# Altium integrated library TI_Logic_Specialty_Logic.IntLib: 2504 symbols (part 37 of 81)
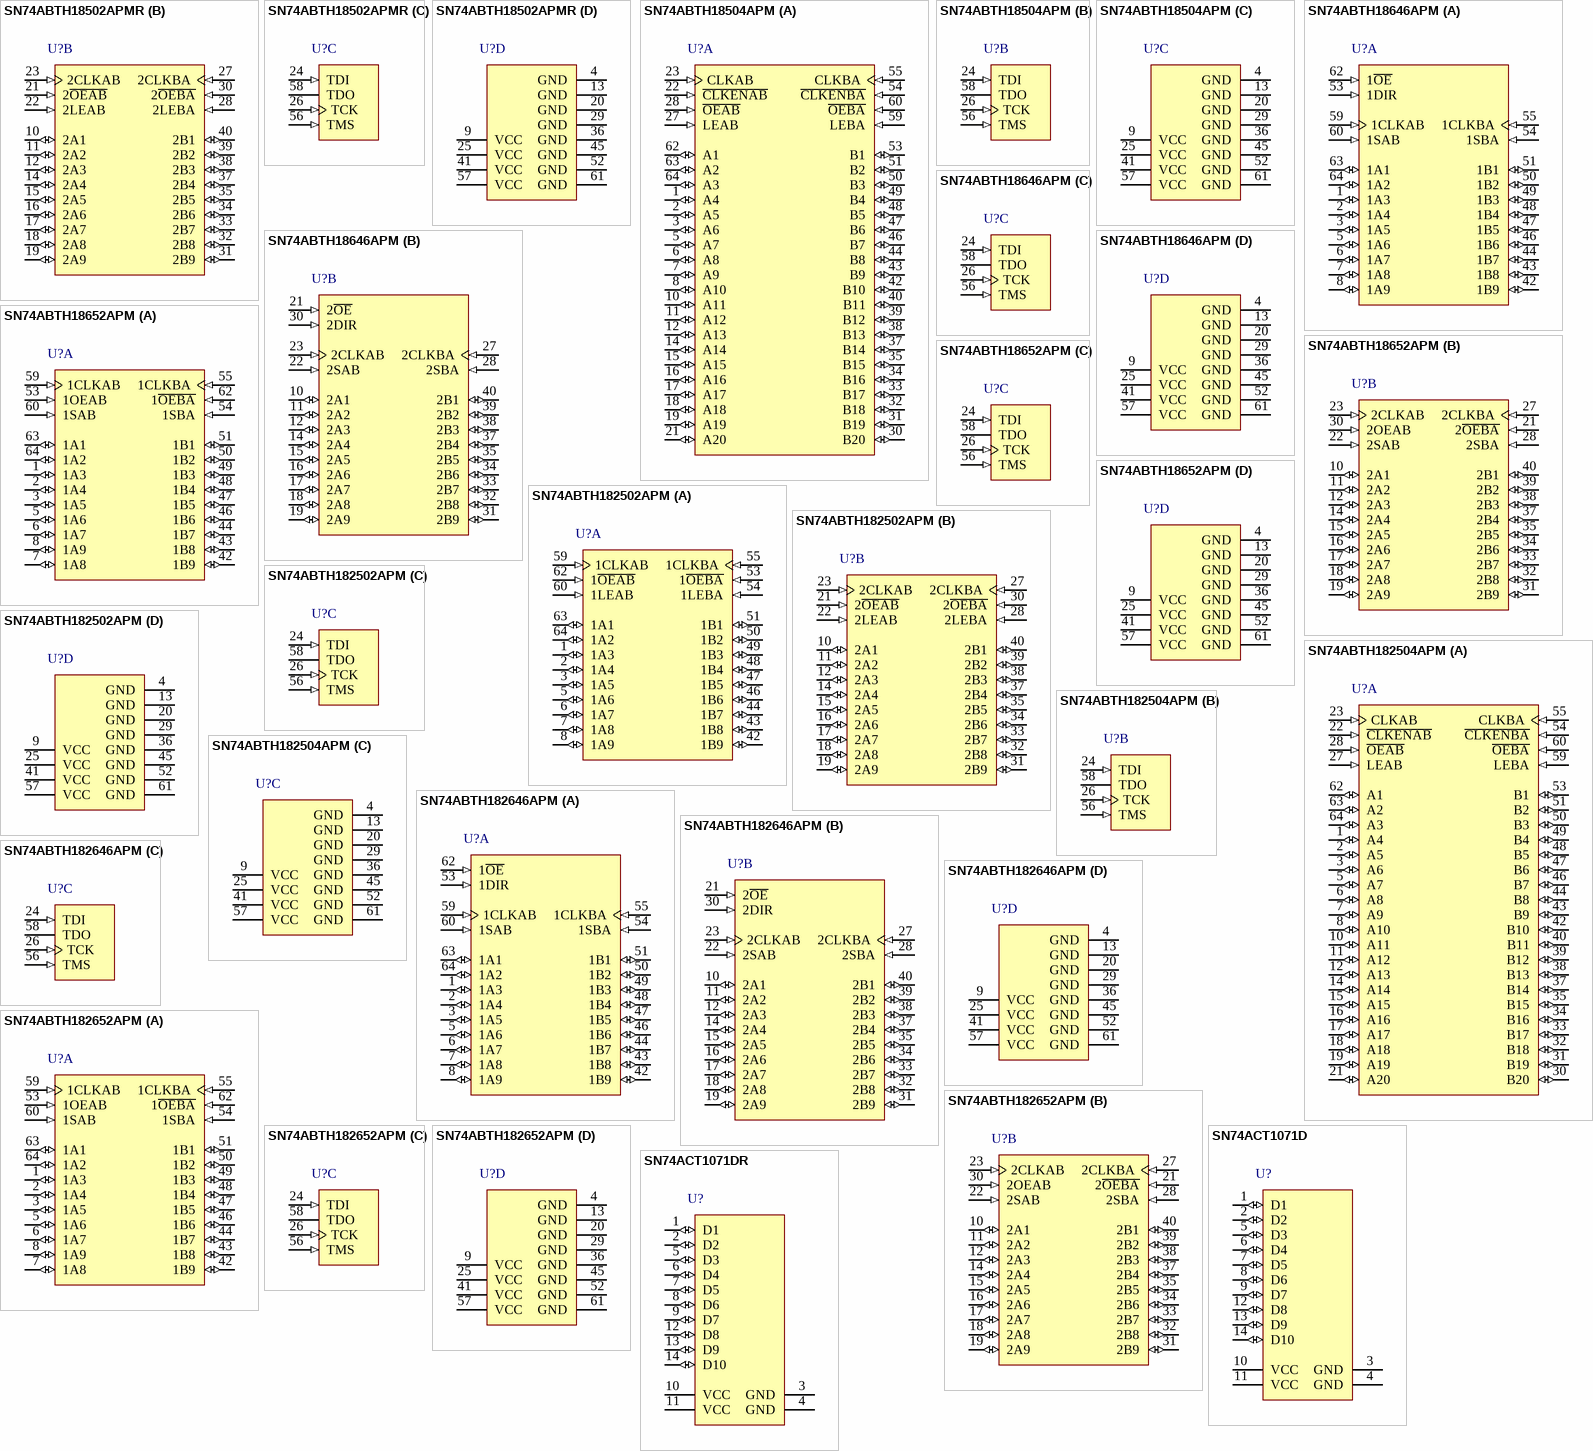
[diagram p140: symbols SN74ABTH18502APMR to SN74ACT1071DR]

## SN74ABTH182646APM
designator U?
Scan Test Devices With 18-Bit Transceivers And Registers, PM0064A, JEDEC TRAY (10+1); Generic Part Number: SN74ABTH182646A; Manufacturer: Texas Instruments; PartNumber: SN74ABTH182646APM; VCC(Min)(V): 4.5; VCC(Max)(V): 5.5; Output Type: TTL; ICC @ Nom Voltage(Max)(mA): 27; Bits(#): 18; F @ Nom Voltage(Max)(Mhz): 150; Rating: Catalog; Technology Family: ABT; Voltage(Nom)(V): 5; Output Drive (IOL/IOH)(Max)(mA): 64/-32; Output Logic: True; tpd @ Nom Voltage(Max)(ns): 6.1; DatasheetVersion: SCBS166D; PackageReference: PM0064A; Supplier 1: Mouser; Supplier Part Number 1: 595-SN74ABTH182646AP; Supplier 2: Digi-Key; Supplier Part Number 2: 296-4133-ND; Input Type: TTL; Operating Temperature Range(C): -40 to 85; ComponentLink1Description: Manufacturer URL; ComponentLink1URL: http://www.ti.com/; ComponentLink2Description: Datasheet; ComponentLink2URL: http://www.ti.com/lit/ds/symlink/sn74abth182646a.pdf
footprint PM0064A_N (QFP, 64-Leads, Body 10x10mm, Pitch 0.5mm, IPC Medium Density)
footprint PM0064A_M (QFP, 64-Leads, Body 10x10mm, Pitch 0.5mm, IPC Low Density)
footprint PM0064A_L (QFP, 64-Leads, Body 10x10mm, Pitch 0.5mm, IPC High Density)
part A pins: 1 1A3 (io) "Normal-function A-bus I/O ports. See function table for normal-mode logic.", 2 1A4 (io) "Normal-function A-bus I/O ports. See function table for normal-mode logic.", 3 1A5 (io) "Normal-function A-bus I/O ports. See function table for normal-mode logic.", 5 1A6 (io) "Normal-function A-bus I/O ports. See function table for normal-mode logic.", 6 1A7 (io) "Normal-function A-bus I/O ports. See function table for normal-mode logic.", 7 1A8 (io) "Normal-function A-bus I/O ports. See function table for normal-mode logic.", 8 1A9 (io) "Normal-function A-bus I/O ports. See function table for normal-mode logic.", 42 1B9 (io) "Normal-function B-bus I/O ports. See function table for normal-mode logic.", 43 1B8 (io) "Normal-function B-bus I/O ports. See function table for normal-mode logic.", 44 1B7 (io) "Normal-function B-bus I/O ports. See function table for normal-mode logic.", 46 1B6 (io) "Normal-function B-bus I/O ports. See function table for normal-mode logic.", 47 1B5 (io) "Normal-function B-bus I/O ports. See function table for normal-mode logic.", 48 1B4 (io) "Normal-function B-bus I/O ports. See function table for normal-mode logic.", 49 1B3 (io) "Normal-function B-bus I/O ports. See function table for normal-mode logic.", 50 1B2 (io) "Normal-function B-bus I/O ports. See function table for normal-mode logic.", 51 1B1 (io) "Normal-function B-bus I/O ports. See function table for normal-mode logic.", 53 1DIR (in) "Normal-function direction controls. See function table for normal-mode logic.", 54 1SBA (in) "Normal-function select controls. See function table for normal-mode logic.", 55 1CLKBA (in) "Normal-function clock inputs. See function table for normal-mode logic.", 59 1CLKAB (in) "Normal-function clock inputs. See function table for normal-mode logic.", 60 1SAB (in) "Normal-function select controls. See function table for normal-mode logic.", 62 1~{OE} (in) "Normal-function output enables. See function table for normal-mode logic. An internal pullup at each terminal forces the terminal to a high level if left unconnected.", 63 1A1 (io) "Normal-function A-bus I/O ports. See function table for normal-mode logic.", 64 1A2 (io) "Normal-function A-bus I/O ports. See function table for normal-mode logic."
part B pins: 10 2A1 (io) "Normal-function A-bus I/O ports. See function table for normal-mode logic.", 11 2A2 (io) "Normal-function A-bus I/O ports. See function table for normal-mode logic.", 12 2A3 (io) "Normal-function A-bus I/O ports. See function table for normal-mode logic.", 14 2A4 (io) "Normal-function A-bus I/O ports. See function table for normal-mode logic.", 15 2A5 (io) "Normal-function A-bus I/O ports. See function table for normal-mode logic.", 16 2A6 (io) "Normal-function A-bus I/O ports. See function table for normal-mode logic.", 17 2A7 (io) "Normal-function A-bus I/O ports. See function table for normal-mode logic.", 18 2A8 (io) "Normal-function A-bus I/O ports. See function table for normal-mode logic.", 19 2A9 (io) "Normal-function A-bus I/O ports. See function table for normal-mode logic.", 21 2~{OE} (in) "Normal-function output enables. See function table for normal-mode logic. An internal pullup at each terminal forces the terminal to a high level if left unconnected.", 22 2SAB (in) "Normal-function select controls. See function table for normal-mode logic.", 23 2CLKAB (in) "Normal-function clock inputs. See function table for normal-mode logic.", 27 2CLKBA (in) "Normal-function clock inputs. See function table for normal-mode logic.", 28 2SBA (in) "Normal-function select controls. See function table for normal-mode logic.", 30 2DIR (in) "Normal-function direction controls. See function table for normal-mode logic.", 31 2B9 (io) "Normal-function B-bus I/O ports. See function table for normal-mode logic.", 32 2B8 (io) "Normal-function B-bus I/O ports. See function table for normal-mode logic.", 33 2B7 (io) "Normal-function B-bus I/O ports. See function table for normal-mode logic.", 34 2B6 (io) "Normal-function B-bus I/O ports. See function table for normal-mode logic.", 35 2B5 (io) "Normal-function B-bus I/O ports. See function table for normal-mode logic.", 37 2B4 (io) "Normal-function B-bus I/O ports. See function table for normal-mode logic.", 38 2B3 (io) "Normal-function B-bus I/O ports. See function table for normal-mode logic.", 39 2B2 (io) "Normal-function B-bus I/O ports. See function table for normal-mode logic.", 40 2B1 (io) "Normal-function B-bus I/O ports. See function table for normal-mode logic."
part C pins: 24 TDI (in) "Test data input. One of four terminals required by IEEE Std 1149.1-1990. TDI is the serial input for shifting data through the instruction register or selected data register. An internal pullup forces TDI to a high level if (See Datasheet)", 26 TCK (in) "Test clock. One of four terminals required by IEEE Std 1149.1-1990. Test operations of the device are synchronous to TCK. Data is captured on the rising edge of TCK and outputs change on the falling edge of TCK.", 56 TMS (in) "Test mode select. One of four terminals required by IEEE Std 1149.1-1990. TMS directs the device through its TAP controller states. An internal pullup forces TMS to a high level if left unconnected.", 58 TDO (hiz) "Test data output. One of four terminals required by IEEE Std 1149.1-1990. TDO is the serial output for shifting data through the instruction register or selected data register."
part D pins: 4 GND (power), 9 VCC (power) "Supply voltage", 13 GND (power), 20 GND (power), 25 VCC (power) "Supply voltage", 29 GND (power), 36 GND (power), 41 VCC (power) "Supply voltage", 45 GND (power), 52 GND (power), 57 VCC (power) "Supply voltage", 61 GND (power)

## SN74ABTH182652APM
designator U?
Scan Test Devices With 18-Bit Transceivers And Registers, PM0064A, JEDEC TRAY (10+1); Generic Part Number: SN74ABTH182652A; Manufacturer: Texas Instruments; PartNumber: SN74ABTH182652APM; VCC(Min)(V): 4.5; VCC(Max)(V): 5.5; Output Type: TTL; ICC @ Nom Voltage(Max)(mA): 27; Bits(#): 18; F @ Nom Voltage(Max)(Mhz): 150; Rating: Catalog; Technology Family: ABT; Voltage(Nom)(V): 5; Output Drive (IOL/IOH)(Max)(mA): 64/-32; Output Logic: True; tpd @ Nom Voltage(Max)(ns): 6.1; DatasheetVersion: SCBS167D; PackageReference: PM0064A; Supplier 1: Mouser; Supplier Part Number 1: 595-SN74ABTH182652AP; Supplier 2: Digi-Key; Supplier Part Number 2: SN74ABTH182652APM-ND; Input Type: TTL; Operating Temperature Range(C): -40 to 85; ComponentLink1Description: Manufacturer URL; ComponentLink1URL: http://www.ti.com/; ComponentLink2Description: Datasheet; ComponentLink2URL: http://www.ti.com/lit/ds/symlink/sn74abth182652a.pdf
footprint PM0064A_N (QFP, 64-Leads, Body 10x10mm, Pitch 0.5mm, IPC Medium Density)
footprint PM0064A_M (QFP, 64-Leads, Body 10x10mm, Pitch 0.5mm, IPC Low Density)
footprint PM0064A_L (QFP, 64-Leads, Body 10x10mm, Pitch 0.5mm, IPC High Density)
part A pins: 1 1A3 (io) "Normal-function A-bus I/O ports. See function table for normal-mode logic.", 2 1A4 (io) "Normal-function A-bus I/O ports. See function table for normal-mode logic.", 3 1A5 (io) "Normal-function A-bus I/O ports. See function table for normal-mode logic.", 5 1A6 (io) "Normal-function A-bus I/O ports. See function table for normal-mode logic.", 6 1A7 (io) "Normal-function A-bus I/O ports. See function table for normal-mode logic.", 7 1A8 (io) "Normal-function A-bus I/O ports. See function table for normal-mode logic.", 8 1A9 (io) "Normal-function A-bus I/O ports. See function table for normal-mode logic.", 42 1B9 (io) "Normal-function B-bus I/O ports. See function table for normal-mode logic.", 43 1B8 (io) "Normal-function B-bus I/O ports. See function table for normal-mode logic.", 44 1B7 (io) "Normal-function B-bus I/O ports. See function table for normal-mode logic.", 46 1B6 (io) "Normal-function B-bus I/O ports. See function table for normal-mode logic.", 47 1B5 (io) "Normal-function B-bus I/O ports. See function table for normal-mode logic.", 48 1B4 (io) "Normal-function B-bus I/O ports. See function table for normal-mode logic.", 49 1B3 (io) "Normal-function B-bus I/O ports. See function table for normal-mode logic.", 50 1B2 (io) "Normal-function B-bus I/O ports. See function table for normal-mode logic.", 51 1B1 (io) "Normal-function B-bus I/O ports. See function table for normal-mode logic.", 53 1OEAB (in) "Normal-function active-high output enables. See function table for normal-mode logic. An internal pulldown at each terminal forces the terminal to a high level if left unconnected.", 54 1SBA (in) "Normal-function select controls. See function table for normal-mode logic.", 55 1CLKBA (in) "Normal-function clock inputs. See function table for normal-mode logic.", 59 1CLKAB (in) "Normal-function clock inputs. See function table for normal-mode logic.", 60 1SAB (in) "Normal-function select controls. See function table for normal-mode logic.", 62 1~{OEBA} (in) "Normal-function active-low output enables. See function table for normal-mode logic. An internal pullup at each terminal forces the terminal to a high level if left unconnected.", 63 1A1 (io) "Normal-function A-bus I/O ports. See function table for normal-mode logic.", 64 1A2 (io) "Normal-function A-bus I/O ports. See function table for normal-mode logic."
part B pins: 10 2A1 (io) "Normal-function A-bus I/O ports. See function table for normal-mode logic.", 11 2A2 (io) "Normal-function A-bus I/O ports. See function table for normal-mode logic.", 12 2A3 (io) "Normal-function A-bus I/O ports. See function table for normal-mode logic.", 14 2A4 (io) "Normal-function A-bus I/O ports. See function table for normal-mode logic.", 15 2A5 (io) "Normal-function A-bus I/O ports. See function table for normal-mode logic.", 16 2A6 (io) "Normal-function A-bus I/O ports. See function table for normal-mode logic.", 17 2A7 (io) "Normal-function A-bus I/O ports. See function table for normal-mode logic.", 18 2A8 (io) "Normal-function A-bus I/O ports. See function table for normal-mode logic.", 19 2A9 (io) "Normal-function A-bus I/O ports. See function table for normal-mode logic.", 21 2~{OEBA} (in) "Normal-function active-low output enables. See function table for normal-mode logic. An internal pullup at each terminal forces the terminal to a high level if left unconnected.", 22 2SAB (in) "Normal-function select controls. See function table for normal-mode logic.", 23 2CLKAB (in) "Normal-function clock inputs. See function table for normal-mode logic.", 27 2CLKBA (in) "Normal-function clock inputs. See function table for normal-mode logic.", 28 2SBA (in) "Normal-function select controls. See function table for normal-mode logic.", 30 2OEAB (in) "Normal-function active-high output enables. See function table for normal-mode logic. An internal pulldown at each terminal forces the terminal to a high level if left unconnected.", 31 2B9 (io) "Normal-function B-bus I/O ports. See function table for normal-mode logic.", 32 2B8 (io) "Normal-function B-bus I/O ports. See function table for normal-mode logic.", 33 2B7 (io) "Normal-function B-bus I/O ports. See function table for normal-mode logic.", 34 2B6 (io) "Normal-function B-bus I/O ports. See function table for normal-mode logic.", 35 2B5 (io) "Normal-function B-bus I/O ports. See function table for normal-mode logic.", 37 2B4 (io) "Normal-function B-bus I/O ports. See function table for normal-mode logic.", 38 2B3 (io) "Normal-function B-bus I/O ports. See function table for normal-mode logic.", 39 2B2 (io) "Normal-function B-bus I/O ports. See function table for normal-mode logic.", 40 2B1 (io) "Normal-function B-bus I/O ports. See function table for normal-mode logic."
part C pins: 24 TDI (in) "Test data input. One of four terminals required by IEEE Standard 1149.1-1990. TDI is the serial input for shifting data through the instruction register or selected data register. An internal pullup forces TDI to a high (See Datasheet)", 26 TCK (in) "Test clock. One of four terminals required by IEEE Standard 1149.1-1990. Test operations of the device are synchronous to TCK. Data is captured on the rising edge of TCK and outputs change on the falling edge of TCK.", 56 TMS (in) "Test mode select. One of four terminals required by IEEE Standard 1149.1-1990. TMS directs the device through its TAP controller states. An internal pullup forces TMS to a high level if left unconnected.", 58 TDO (hiz) "Test data output. One of four terminals required by IEEE Standard 1149.1-1990. TDO is the serial output for shifting data through the instruction register or selected data register."
part D pins: 4 GND (power) "Ground", 9 VCC (power) "Supply voltage", 13 GND (power) "Ground", 20 GND (power) "Ground", 25 VCC (power) "Supply voltage", 29 GND (power) "Ground", 36 GND (power) "Ground", 41 VCC (power) "Supply voltage", 45 GND (power) "Ground", 52 GND (power) "Ground", 57 VCC (power) "Supply voltage", 61 GND (power) "Ground"

## SN74ACT1071D
designator U?
10-Bit Bus Termination Networks With Bus Hold Function, D0014A, TUBE; Generic Part Number: SN74ACT1071; Manufacturer: Texas Instruments; PartNumber: SN74ACT1071D; VCC(Min)(V): 4.5; VCC(Max)(V): 5.5; Output Type: CMOS; ICC @ Nom Voltage(Max)(mA): 0.04; Input Type: TTL; Bits(#): 10; F @ Nom Voltage(Max)(Mhz): 90; Technology Family: ACT; Voltage(Nom)(V): 5; Schmitt Trigger: No; DatasheetVersion: SCAS192; PackageReference: D0014A; Supplier 1: Mouser; Supplier Part Number 1: 595-SN74ACT1071D; Supplier 2: Digi-Key; Supplier Part Number 2: 296-4356-5-ND; Operating Temperature Range(C): -40 to 85; Code_JEDEC: MS-012; ComponentLink1Description: Manufacturer URL; ComponentLink1URL: http://www.ti.com/; ComponentLink2Description: Datasheet; ComponentLink2URL: http://www.ti.com/lit/ds/symlink/sn74act1071.pdf; ComponentLink3Description: Package Specification; ComponentLink3URL: http://www.ti.com/lit/ml/mpds177g/mpds177g.pdf
footprint D0014A_N (SOIC, 14-Leads, Body 8.75x4mm, Pitch 1.27mm, IPC Medium Density)
footprint D0014A_M (SOIC, 14-Leads, Body 8.75x4mm, Pitch 1.27mm, IPC Low Density)
footprint D0014A_L (SOIC, 14-Leads, Body 8.75x4mm, Pitch 1.27mm, IPC High Density)
pins: 1 D1 (io), 2 D2 (io), 3 GND (power), 4 GND (power), 5 D3 (io), 6 D4 (io), 7 D5 (io), 8 D6 (io), 9 D7 (io), 10 VCC (power), 11 VCC (power), 12 D8 (io), 13 D9 (io), 14 D10 (io)

## SN74ACT1071DR
designator U?
10-Bit Bus Termination Networks With Bus Hold Function, D0014A, LARGE T&R; Generic Part Number: SN74ACT1071; Manufacturer: Texas Instruments; PartNumber: SN74ACT1071DR; VCC(Min)(V): 4.5; VCC(Max)(V): 5.5; Output Type: CMOS; ICC @ Nom Voltage(Max)(mA): 0.04; Input Type: TTL; Bits(#): 10; F @ Nom Voltage(Max)(Mhz): 90; Technology Family: ACT; Voltage(Nom)(V): 5; Schmitt Trigger: No; DatasheetVersion: SCAS192; PackageReference: D0014A; Supplier 1: Mouser; Supplier Part Number 1: 595-SN74ACT1071DR; Supplier 2: Digi-Key; Supplier Part Number 2: 296-14692-2-ND; Supplier 3: Digi-Key; Supplier Part Number 3: 296-14692-1-ND; Supplier 4: Digi-Key; Supplier Part Number 4: 296-14692-6-ND; Operating Temperature Range(C): -40 to 85; Code_JEDEC: MS-012; ComponentLink1Description: Manufacturer URL; ComponentLink1URL: http://www.ti.com/; ComponentLink2Description: Datasheet; ComponentLink2URL: http://www.ti.com/lit/ds/symlink/sn74act1071.pdf; ComponentLink3Description: Package Specification; ComponentLink3URL: http://www.ti.com/lit/ml/mpds177g/mpds177g.pdf
footprint D0014A_N (SOIC, 14-Leads, Body 8.75x4mm, Pitch 1.27mm, IPC Medium Density)
footprint D0014A_M (SOIC, 14-Leads, Body 8.75x4mm, Pitch 1.27mm, IPC Low Density)
footprint D0014A_L (SOIC, 14-Leads, Body 8.75x4mm, Pitch 1.27mm, IPC High Density)
pins: 1 D1 (io), 2 D2 (io), 3 GND (power), 4 GND (power), 5 D3 (io), 6 D4 (io), 7 D5 (io), 8 D6 (io), 9 D7 (io), 10 VCC (power), 11 VCC (power), 12 D8 (io), 13 D9 (io), 14 D10 (io)

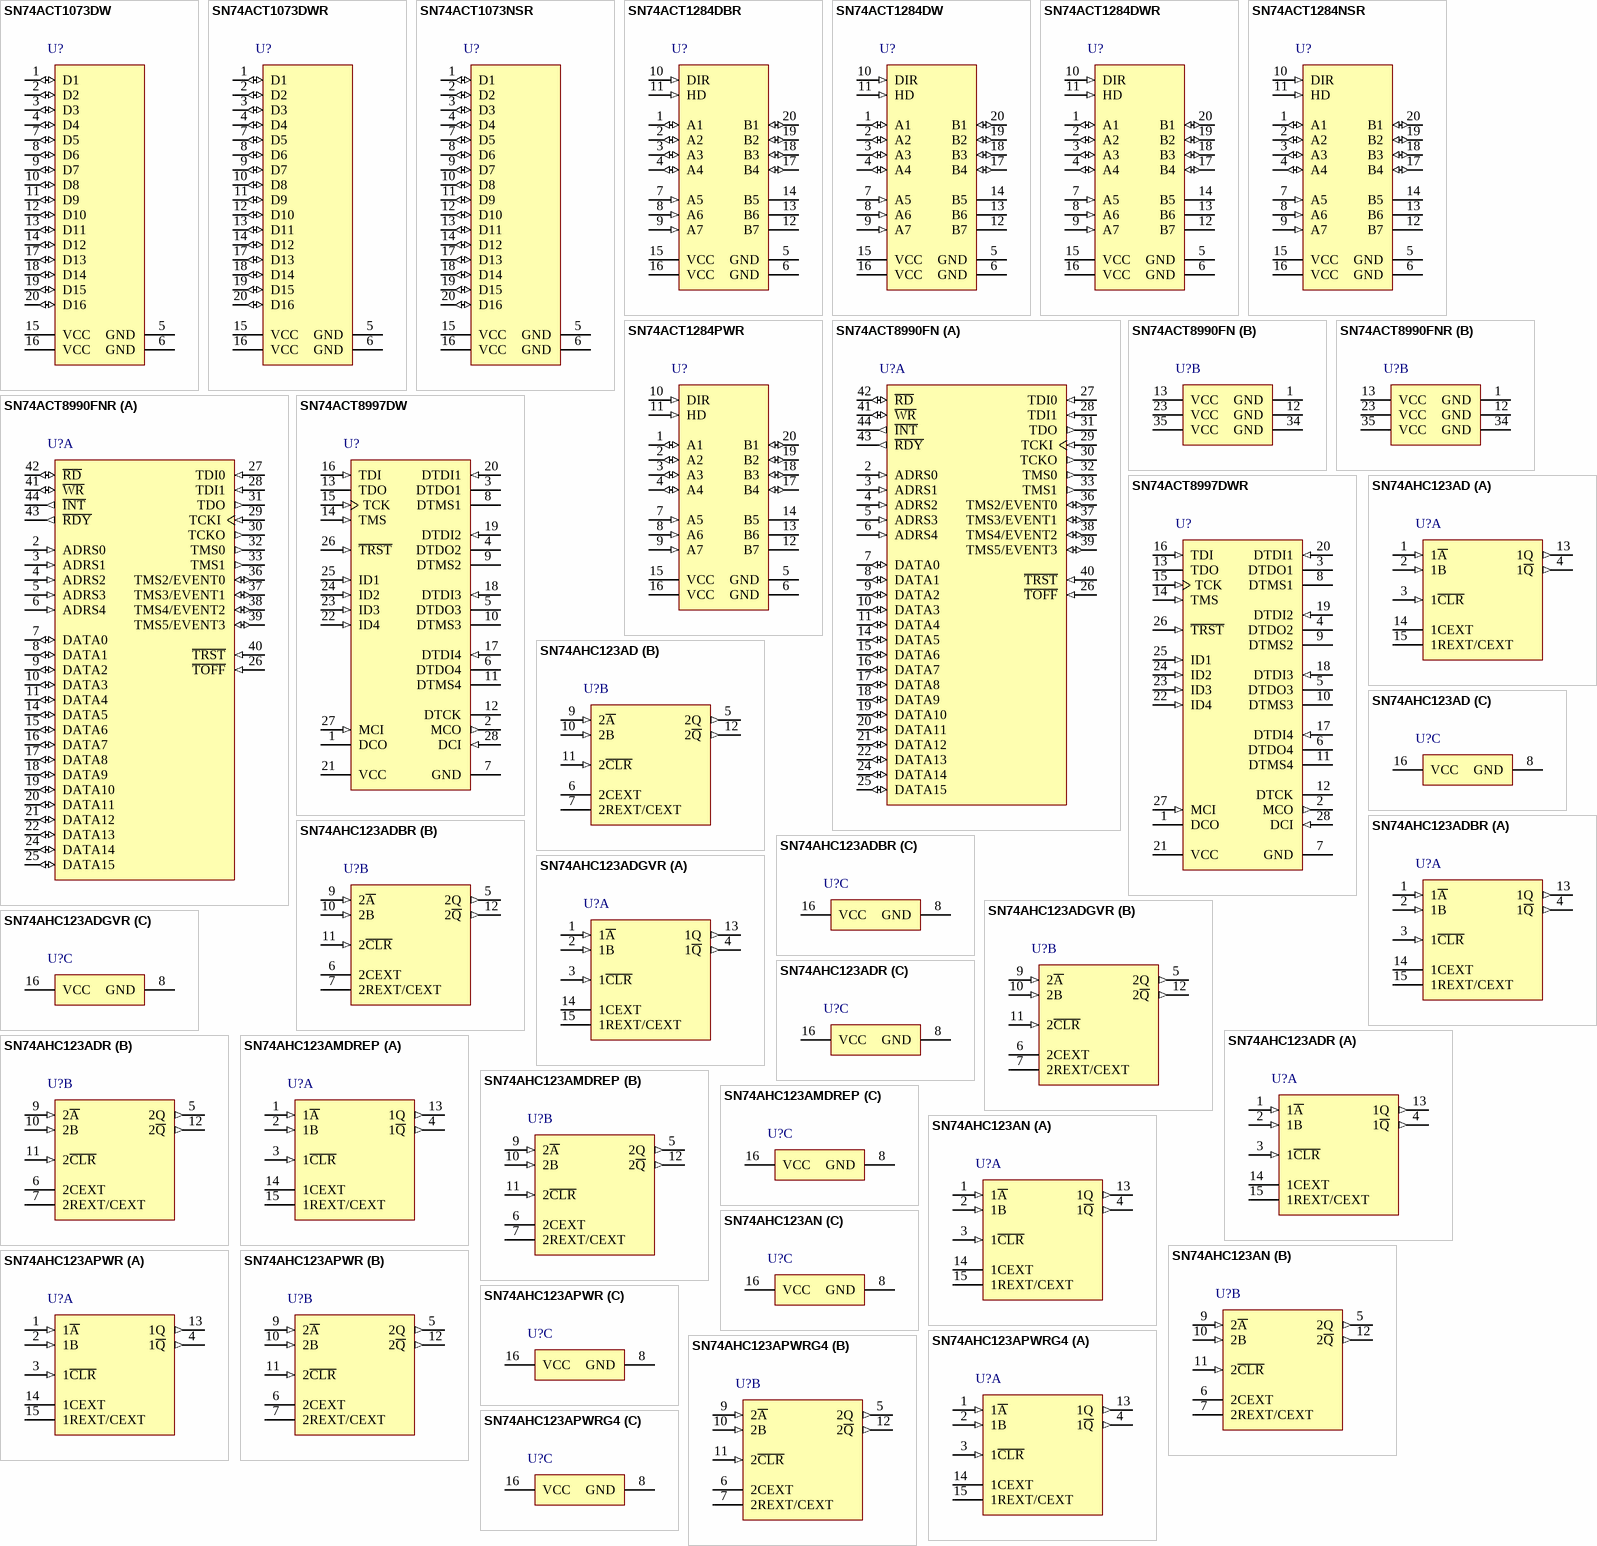
[diagram p49: symbols SN74ACT1073DW to SN74AHC123APWRG4]

## SN74ACT1073DW
designator U?
16-Bit Bus Termination Networks With Bus Hold Function, DW0020A, TUBE; Generic Part Number: SN74ACT1073; Manufacturer: Texas Instruments; PartNumber: SN74ACT1073DW; VCC(Min)(V): 4.5; VCC(Max)(V): 5.5; Output Type: CMOS; ICC @ Nom Voltage(Max)(mA): 0.04; Input Type: TTL; Bits(#): 16; F @ Nom Voltage(Max)(Mhz): 90; Technology Family: ACT; Voltage(Nom)(V): 5; Schmitt Trigger: No; DatasheetVersion: SCAS193A; PackageReference: DW0020A; Supplier 1: Mouser; Supplier Part Number 1: 595-SN74ACT1073DW; Supplier 2: Digi-Key; Supplier Part Number 2: 296-4357-5-ND; Operating Temperature Range(C): -40 to 85; Code_JEDEC: MS-013; ComponentLink1Description: Manufacturer URL; ComponentLink1URL: http://www.ti.com/; ComponentLink2Description: Datasheet; ComponentLink2URL: http://www.ti.com/lit/ds/symlink/sn74act1073.pdf; ComponentLink3Description: Package Specification; ComponentLink3URL: http://www.ti.com/lit/ml/mpds173a/mpds173a.pdf
footprint DW0020A_N (SOIC, 20-Leads, Body 13x7.6mm, Pitch 1.27mm, IPC Medium Density)
footprint DW0020A_M (SOIC, 20-Leads, Body 13x7.6mm, Pitch 1.27mm, IPC Low Density)
footprint DW0020A_L (SOIC, 20-Leads, Body 13x7.6mm, Pitch 1.27mm, IPC High Density)
pins: 1 D1 (io), 2 D2 (io), 3 D3 (io), 4 D4 (io), 5 GND (power), 6 GND (power), 7 D5 (io), 8 D6 (io), 9 D7 (io), 10 D8 (io), 11 D9 (io), 12 D10 (io), 13 D11 (io), 14 D12 (io), 15 VCC (power), 16 VCC (power), 17 D13 (io), 18 D14 (io), 19 D15 (io), 20 D16 (io)

## SN74ACT1073DWR
designator U?
16-Bit Bus Termination Networks With Bus Hold Function, DW0020A, LARGE T&R; Generic Part Number: SN74ACT1073; Manufacturer: Texas Instruments; PartNumber: SN74ACT1073DWR; VCC(Min)(V): 4.5; VCC(Max)(V): 5.5; Output Type: CMOS; ICC @ Nom Voltage(Max)(mA): 0.04; Input Type: TTL; Bits(#): 16; F @ Nom Voltage(Max)(Mhz): 90; Technology Family: ACT; Voltage(Nom)(V): 5; Schmitt Trigger: No; DatasheetVersion: SCAS193A; PackageReference: DW0020A; Supplier 1: Mouser; Supplier Part Number 1: 595-SN74ACT1073DWR; Supplier 2: Digi-Key; Supplier Part Number 2: 296-14693-2-ND; Supplier 3: Digi-Key; Supplier Part Number 3: 296-14693-1-ND; Supplier 4: Digi-Key; Supplier Part Number 4: 296-14693-6-ND; Operating Temperature Range(C): -40 to 85; Code_JEDEC: MS-013; ComponentLink1Description: Manufacturer URL; ComponentLink1URL: http://www.ti.com/; ComponentLink2Description: Datasheet; ComponentLink2URL: http://www.ti.com/lit/ds/symlink/sn74act1073.pdf; ComponentLink3Description: Package Specification; ComponentLink3URL: http://www.ti.com/lit/ml/mpds173a/mpds173a.pdf
footprint DW0020A_N (SOIC, 20-Leads, Body 13x7.6mm, Pitch 1.27mm, IPC Medium Density)
footprint DW0020A_M (SOIC, 20-Leads, Body 13x7.6mm, Pitch 1.27mm, IPC Low Density)
footprint DW0020A_L (SOIC, 20-Leads, Body 13x7.6mm, Pitch 1.27mm, IPC High Density)
pins: 1 D1 (io), 2 D2 (io), 3 D3 (io), 4 D4 (io), 5 GND (power), 6 GND (power), 7 D5 (io), 8 D6 (io), 9 D7 (io), 10 D8 (io), 11 D9 (io), 12 D10 (io), 13 D11 (io), 14 D12 (io), 15 VCC (power), 16 VCC (power), 17 D13 (io), 18 D14 (io), 19 D15 (io), 20 D16 (io)

## SN74ACT1073NSR
designator U?
16-Bit Bus Termination Networks With Bus Hold Function, NS0020A, LARGE T&R; Generic Part Number: SN74ACT1073; Manufacturer: Texas Instruments; PartNumber: SN74ACT1073NSR; VCC(Min)(V): 4.5; VCC(Max)(V): 5.5; Output Type: CMOS; ICC @ Nom Voltage(Max)(mA): 0.04; Input Type: TTL; Bits(#): 16; F @ Nom Voltage(Max)(Mhz): 90; Technology Family: ACT; Voltage(Nom)(V): 5; Schmitt Trigger: No; DatasheetVersion: SCAS193A; PackageReference: NS0020A; Supplier 1: Mouser; Supplier Part Number 1: 595-SN74ACT1073NSR; Supplier 2: Digi-Key; Supplier Part Number 2: 296-29212-2-ND; Supplier 3: Digi-Key; Supplier Part Number 3: 296-29212-1-ND; Supplier 4: Digi-Key; Supplier Part Number 4: 296-29212-6-ND; Operating Temperature Range(C): -40 to 85; ComponentLink1Description: Manufacturer URL; ComponentLink1URL: http://www.ti.com/; ComponentLink2Description: Datasheet; ComponentLink2URL: http://www.ti.com/lit/ds/symlink/sn74act1073.pdf; ComponentLink3Description: Package Specification; ComponentLink3URL: http://www.ti.com/lit/ml/msop002a/msop002a.pdf
footprint NS0020A_N (SOIC,20-Leads,Body 12.9x5.6mm,Pitch 1.27mm,IPC Medium Density)
footprint NS0020A_M (SOIC,20-Leads,Body 12.9x5.6mm,Pitch 1.27mm,IPC Low Density)
footprint NS0020A_L (SOIC,20-Leads,Body 12.9x5.6mm,Pitch 1.27mm,IPC High Density)
pins: 1 D1 (io), 2 D2 (io), 3 D3 (io), 4 D4 (io), 5 GND (power), 6 GND (power), 7 D5 (io), 8 D6 (io), 9 D7 (io), 10 D8 (io), 11 D9 (io), 12 D10 (io), 13 D11 (io), 14 D12 (io), 15 VCC (power), 16 VCC (power), 17 D13 (io), 18 D14 (io), 19 D15 (io), 20 D16 (io)

## SN74ACT1284DBR
designator U?
7-Bit Bus Interfaces With 3-State Outputs, DB0020A, LARGE T&R; Generic Part Number: SN74ACT1284; Manufacturer: Texas Instruments; PartNumber: SN74ACT1284DBR; VCC(Min)(V): 4.7; VCC(Max)(V): 5.5; Output Type: CMOS; ICC @ Nom Voltage(Max)(mA): 1.5; Input Type: TTL; Bits(#): 7; F @ Nom Voltage(Max)(Mhz): 5; Technology Family: ACT; Schmitt Trigger: No; Output Drive (IOL/IOH)(Max)(mA): 14/-14; tpd @ Nom Voltage(Max)(ns): 20; DatasheetVersion: SCAS459D; PackageReference: DB0020A; Supplier 1: Mouser; Supplier Part Number 1: 595-SN74ACT1284DBR; Supplier 2: Digi-Key; Supplier Part Number 2: 296-4365-2-ND; Supplier 3: Digi-Key; Supplier Part Number 3: 296-4365-1-ND; Supplier 4: Digi-Key; Supplier Part Number 4: 296-4365-6-ND; Operating Temperature Range(C): 0 to 70; Voltage(Nom)(V): 5; Code_JEDEC: MO-150; ComponentLink1Description: Manufacturer URL; ComponentLink1URL: http://www.ti.com/; ComponentLink2Description: Datasheet; ComponentLink2URL: http://www.ti.com/lit/ds/symlink/sn74act1284.pdf; ComponentLink3Description: Package Specification; ComponentLink3URL: http://www.ti.com/lit/ml/mpds508/mpds508.pdf
footprint DB0020A_N (SOP, 20-Leads, Body 5.6x7.5mm, Pitch 0.65mm, IPC Medium Density)
footprint DB0020A_M (SOP, 20-Leads, Body 5.6x7.5mm, Pitch 0.65mm, IPC Low Density)
footprint DB0020A_L (SOP, 20-Leads, Body 5.6x7.5mm, Pitch 0.65mm, IPC High Density)
pins: 1 A1 (io), 2 A2 (io), 3 A3 (io), 4 A4 (io), 5 GND (power), 6 GND (power), 7 A5 (in), 8 A6 (in), 9 A7 (in), 10 DIR (in), 11 HD (in), 12 B7 (hiz), 13 B6 (hiz), 14 B5 (hiz), 15 VCC (power), 16 VCC (power), 17 B4 (io), 18 B3 (io), 19 B2 (io), 20 B1 (io)

## SN74ACT1284DW
designator U?
7-Bit Bus Interfaces With 3-State Outputs, DW0020A, TUBE; Generic Part Number: SN74ACT1284; Manufacturer: Texas Instruments; PartNumber: SN74ACT1284DW; VCC(Min)(V): 4.7; VCC(Max)(V): 5.5; Output Type: CMOS; ICC @ Nom Voltage(Max)(mA): 1.5; Input Type: TTL; Bits(#): 7; F @ Nom Voltage(Max)(Mhz): 5; Technology Family: ACT; Schmitt Trigger: No; Output Drive (IOL/IOH)(Max)(mA): 14/-14; tpd @ Nom Voltage(Max)(ns): 20; DatasheetVersion: SCAS459D; PackageReference: DW0020A; Supplier 1: Mouser; Supplier Part Number 1: 595-SN74ACT1284DW; Supplier 2: Digi-Key; Supplier Part Number 2: 296-1067-5-ND; Operating Temperature Range(C): 0 to 70; Voltage(Nom)(V): 5; Code_JEDEC: MS-013; ComponentLink1Description: Manufacturer URL; ComponentLink1URL: http://www.ti.com/; ComponentLink2Description: Datasheet; ComponentLink2URL: http://www.ti.com/lit/ds/symlink/sn74act1284.pdf; ComponentLink3Description: Package Specification; ComponentLink3URL: http://www.ti.com/lit/ml/mpds173a/mpds173a.pdf
footprint DW0020A_N (SOIC, 20-Leads, Body 13x7.6mm, Pitch 1.27mm, IPC Medium Density)
footprint DW0020A_M (SOIC, 20-Leads, Body 13x7.6mm, Pitch 1.27mm, IPC Low Density)
footprint DW0020A_L (SOIC, 20-Leads, Body 13x7.6mm, Pitch 1.27mm, IPC High Density)
pins: 1 A1 (io), 2 A2 (io), 3 A3 (io), 4 A4 (io), 5 GND (power), 6 GND (power), 7 A5 (in), 8 A6 (in), 9 A7 (in), 10 DIR (in), 11 HD (in), 12 B7 (hiz), 13 B6 (hiz), 14 B5 (hiz), 15 VCC (power), 16 VCC (power), 17 B4 (io), 18 B3 (io), 19 B2 (io), 20 B1 (io)

## SN74ACT1284DWR
designator U?
7-Bit Bus Interfaces With 3-State Outputs, DW0020A, LARGE T&R; Generic Part Number: SN74ACT1284; Manufacturer: Texas Instruments; PartNumber: SN74ACT1284DWR; VCC(Min)(V): 4.7; VCC(Max)(V): 5.5; Output Type: CMOS; ICC @ Nom Voltage(Max)(mA): 1.5; Input Type: TTL; Bits(#): 7; F @ Nom Voltage(Max)(Mhz): 5; Technology Family: ACT; Schmitt Trigger: No; Output Drive (IOL/IOH)(Max)(mA): 14/-14; tpd @ Nom Voltage(Max)(ns): 20; DatasheetVersion: SCAS459D; PackageReference: DW0020A; Supplier 1: Mouser; Supplier Part Number 1: 595-SN74ACT1284DWR; Supplier 2: Digi-Key; Supplier Part Number 2: 296-1067-2-ND; Supplier 3: Digi-Key; Supplier Part Number 3: 296-1067-1-ND; Supplier 4: Digi-Key; Supplier Part Number 4: 296-1067-6-ND; Operating Temperature Range(C): 0 to 70; Voltage(Nom)(V): 5; Code_JEDEC: MS-013; ComponentLink1Description: Manufacturer URL; ComponentLink1URL: http://www.ti.com/; ComponentLink2Description: Datasheet; ComponentLink2URL: http://www.ti.com/lit/ds/symlink/sn74act1284.pdf; ComponentLink3Description: Package Specification; ComponentLink3URL: http://www.ti.com/lit/ml/mpds173a/mpds173a.pdf
footprint DW0020A_N (SOIC, 20-Leads, Body 13x7.6mm, Pitch 1.27mm, IPC Medium Density)
footprint DW0020A_M (SOIC, 20-Leads, Body 13x7.6mm, Pitch 1.27mm, IPC Low Density)
footprint DW0020A_L (SOIC, 20-Leads, Body 13x7.6mm, Pitch 1.27mm, IPC High Density)
pins: 1 A1 (io), 2 A2 (io), 3 A3 (io), 4 A4 (io), 5 GND (power), 6 GND (power), 7 A5 (in), 8 A6 (in), 9 A7 (in), 10 DIR (in), 11 HD (in), 12 B7 (hiz), 13 B6 (hiz), 14 B5 (hiz), 15 VCC (power), 16 VCC (power), 17 B4 (io), 18 B3 (io), 19 B2 (io), 20 B1 (io)

## SN74ACT1284NSR
designator U?
7-Bit Bus Interfaces With 3-State Outputs, NS0020A, LARGE T&R; Generic Part Number: SN74ACT1284; Manufacturer: Texas Instruments; PartNumber: SN74ACT1284NSR; VCC(Min)(V): 4.7; VCC(Max)(V): 5.5; Output Type: CMOS; ICC @ Nom Voltage(Max)(mA): 1.5; Input Type: TTL; Bits(#): 7; F @ Nom Voltage(Max)(Mhz): 5; Technology Family: ACT; Schmitt Trigger: No; Output Drive (IOL/IOH)(Max)(mA): 14/-14; tpd @ Nom Voltage(Max)(ns): 20; DatasheetVersion: SCAS459D; PackageReference: NS0020A; Supplier 1: Mouser; Supplier Part Number 1: 595-SN74ACT1284NSR; Supplier 2: Digi-Key; Supplier Part Number 2: SN74ACT1284NSR-ND; Operating Temperature Range(C): 0 to 70; Voltage(Nom)(V): 5; ComponentLink1Description: Manufacturer URL; ComponentLink1URL: http://www.ti.com/; ComponentLink2Description: Datasheet; ComponentLink2URL: http://www.ti.com/lit/ds/symlink/sn74act1284.pdf; ComponentLink3Description: Package Specification; ComponentLink3URL: http://www.ti.com/lit/ml/msop002a/msop002a.pdf
footprint NS0020A_N (SOIC,20-Leads,Body 12.9x5.6mm,Pitch 1.27mm,IPC Medium Density)
footprint NS0020A_M (SOIC,20-Leads,Body 12.9x5.6mm,Pitch 1.27mm,IPC Low Density)
footprint NS0020A_L (SOIC,20-Leads,Body 12.9x5.6mm,Pitch 1.27mm,IPC High Density)
pins: 1 A1 (io), 2 A2 (io), 3 A3 (io), 4 A4 (io), 5 GND (power), 6 GND (power), 7 A5 (in), 8 A6 (in), 9 A7 (in), 10 DIR (in), 11 HD (in), 12 B7 (hiz), 13 B6 (hiz), 14 B5 (hiz), 15 VCC (power), 16 VCC (power), 17 B4 (io), 18 B3 (io), 19 B2 (io), 20 B1 (io)

## SN74ACT1284PWR
designator U?
7-Bit Bus Interfaces With 3-State Outputs, PW0020A, LARGE T&R; Generic Part Number: SN74ACT1284; Manufacturer: Texas Instruments; PartNumber: SN74ACT1284PWR; VCC(Min)(V): 4.7; VCC(Max)(V): 5.5; Output Type: CMOS; ICC @ Nom Voltage(Max)(mA): 1.5; Input Type: TTL; Bits(#): 7; F @ Nom Voltage(Max)(Mhz): 5; Technology Family: ACT; Schmitt Trigger: No; Output Drive (IOL/IOH)(Max)(mA): 14/-14; tpd @ Nom Voltage(Max)(ns): 20; DatasheetVersion: SCAS459D; PackageReference: PW0020A; Supplier 1: Mouser; Supplier Part Number 1: 595-SN74ACT1284PWR; Supplier 2: Digi-Key; Supplier Part Number 2: 296-4366-2-ND; Supplier 3: Digi-Key; Supplier Part Number 3: 296-4366-1-ND; Supplier 4: Digi-Key; Supplier Part Number 4: 296-4366-6-ND; Operating Temperature Range(C): 0 to 70; Voltage(Nom)(V): 5; Code_JEDEC: MO-153; ComponentLink1Description: Manufacturer URL; ComponentLink1URL: http://www.ti.com/; ComponentLink2Description: Datasheet; ComponentLink2URL: http://www.ti.com/lit/ds/symlink/sn74act1284.pdf; ComponentLink3Description: Package Specification; ComponentLink3URL: http://www.ti.com/lit/ml/mpds362/mpds362.pdf
footprint PW0020A_N (SOP, 20-Leads, Body 6.6x4.5mm, Pitch 0.65mm, IPC Medium Density)
footprint PW0020A_M (SOP, 20-Leads, Body 6.6x4.5mm, Pitch 0.65mm, IPC Low Density)
footprint PW0020A_L (SOP, 20-Leads, Body 6.6x4.5mm, Pitch 0.65mm, IPC High Density)
pins: 1 A1 (io), 2 A2 (io), 3 A3 (io), 4 A4 (io), 5 GND (power), 6 GND (power), 7 A5 (in), 8 A6 (in), 9 A7 (in), 10 DIR (in), 11 HD (in), 12 B7 (hiz), 13 B6 (hiz), 14 B5 (hiz), 15 VCC (power), 16 VCC (power), 17 B4 (io), 18 B3 (io), 19 B2 (io), 20 B1 (io)

## SN74ACT8990FN
designator U?
Test-Bus Controllers IEEE Std 1149.1 (JTAG) TAP Masters With 16-Bit Generic Host Interfaces, FN0044A, TUBE; Generic Part Number: SN74ACT8990; Manufacturer: Texas Instruments; PartNumber: SN74ACT8990FN; VCC(Min)(V): 4.5; VCC(Max)(V): 5.5; Output Type: CMOS; Input Type: TTL; Rating: Catalog; Technology Family: ACT; DatasheetVersion: SCAS190E; PackageReference: FN0044A; Supplier 1: Mouser; Supplier Part Number 1: 595-SN74ACT8990FN; Supplier 2: Digi-Key; Supplier Part Number 2: 296-4505-5-ND; Operating Temperature Range(C): -40 to 85; ComponentLink1Description: Manufacturer URL; ComponentLink1URL: http://www.ti.com/; ComponentLink2Description: Datasheet; ComponentLink2URL: http://www.ti.com/lit/ds/symlink/sn74act8990.pdf
footprint FN0044A_N (PLCC, 44-Leads, Body 16.66x16.66mm, Pitch 1.27mm, IPC Medium Density)
footprint FN0044A_M (PLCC, 44-Leads, Body 16.66x16.66mm, Pitch 1.27mm, IPC Low Density)
footprint FN0044A_L (PLCC, 44-Leads, Body 16.66x16.66mm, Pitch 1.27mm, IPC High Density)
part A pins: 2 ADRS0 (in) "Address inputs. ADRS4- ADRS0 form the 5-bit address bus that interfaces the TBC to its host. These inputs specify the TBC register to be read from or written to.", 3 ADRS1 (in) "Address inputs. ADRS4- ADRS0 form the 5-bit address bus that interfaces the TBC to its host. These inputs specify the TBC register to be read from or written to.", 4 ADRS2 (in) "Address inputs. ADRS4- ADRS0 form the 5-bit address bus that interfaces the TBC to its host. These inputs specify the TBC register to be read from or written to.", 5 ADRS3 (in) "Address inputs. ADRS4- ADRS0 form the 5-bit address bus that interfaces the TBC to its host. These inputs specify the TBC register to be read from or written to.", 6 ADRS4 (in) "Address inputs. ADRS4- ADRS0 form the 5-bit address bus that interfaces the TBC to its host. These inputs specify the TBC register to be read from or written to.", 7 DATA0 (io) "Data inputs and outputs. DATA15-DATA0 form the 16-bit bidirectional data bus that interfaces the TBC to its host. Data is read from or written to the TBC register using this data bus.", 8 DATA1 (io) "Data inputs and outputs. DATA15-DATA0 form the 16-bit bidirectional data bus that interfaces the TBC to its host. Data is read from or written to the TBC register using this data bus.", 9 DATA2 (io) "Data inputs and outputs. DATA15-DATA0 form the 16-bit bidirectional data bus that interfaces the TBC to its host. Data is read from or written to the TBC register using this data bus.", 10 DATA3 (io) "Data inputs and outputs. DATA15-DATA0 form the 16-bit bidirectional data bus that interfaces the TBC to its host. Data is read from or written to the TBC register using this data bus.", 11 DATA4 (io) "Data inputs and outputs. DATA15-DATA0 form the 16-bit bidirectional data bus that interfaces the TBC to its host. Data is read from or written to the TBC register using this data bus.", 14 DATA5 (io) "Data inputs and outputs. DATA15-DATA0 form the 16-bit bidirectional data bus that interfaces the TBC to its host. Data is read from or written to the TBC register using this data bus.", 15 DATA6 (io) "Data inputs and outputs. DATA15-DATA0 form the 16-bit bidirectional data bus that interfaces the TBC to its host. Data is read from or written to the TBC register using this data bus.", 16 DATA7 (io) "Data inputs and outputs. DATA15-DATA0 form the 16-bit bidirectional data bus that interfaces the TBC to its host. Data is read from or written to the TBC register using this data bus.", 17 DATA8 (io) "Data inputs and outputs. DATA15-DATA0 form the 16-bit bidirectional data bus that interfaces the TBC to its host. Data is read from or written to the TBC register using this data bus.", 18 DATA9 (io) "Data inputs and outputs. DATA15-DATA0 form the 16-bit bidirectional data bus that interfaces the TBC to its host. Data is read from or written to the TBC register using this data bus.", 19 DATA10 (io) "Data inputs and outputs. DATA15-DATA0 form the 16-bit bidirectional data bus that interfaces the TBC to its host. Data is read from or written to the TBC register using this data bus.", 20 DATA11 (io) "Data inputs and outputs. DATA15-DATA0 form the 16-bit bidirectional data bus that interfaces the TBC to its host. Data is read from or written to the TBC register using this data bus.", 21 DATA12 (io) "Data inputs and outputs. DATA15-DATA0 form the 16-bit bidirectional data bus that interfaces the TBC to its host. Data is read from or written to the TBC register using this data bus.", 22 DATA13 (io) "Data inputs and outputs. DATA15-DATA0 form the 16-bit bidirectional data bus that interfaces the TBC to its host. Data is read from or written to the TBC register using this data bus.", 24 DATA14 (io) "Data inputs and outputs. DATA15-DATA0 form the 16-bit bidirectional data bus that interfaces the TBC to its host. Data is read from or written to the TBC register using this data bus.", 25 DATA15 (io) "Data inputs and outputs. DATA15-DATA0 form the 16-bit bidirectional data bus that interfaces the TBC to its host. Data is read from or written to the TBC register using this data bus.", 26 ~{TOFF} (in) "Test-off input. T\O\F\F\ is the active low output disable for all outputs and I/Os of the target interface (TCKO, TDO, TMS, TMS/EVENT).", 27 TDI0 (in) "Test data inputs. The TDI1-TDI0 serial inputs are used for shifting test data from the target(s). The TDI inputs can be directly connected to the TDO pin(s) of the target(s).", 28 TDI1 (in) "Test data inputs. The TDI1-TDI0 serial inputs are used for shifting test data from the target(s). The TDI inputs can be directly connected to the TDO pin(s) of the target(s).", 29 TCKI (in) "Test clock input. TCKI is the clock input for the TBC. Most operations of the TBC are synchronous to TCKI. When enabled, all target interface outputs change on the falling edge of TCKI. Sampling of target interface inputs (See Datasheet)", 30 TCKO (out) "Test clock output. TCKO distributes TCK to the target(s). The TCKO is configured to be disabled, constant zero, constant one, or to follow TCKI. When TCKO follows TCKI, it is delayed to match the delay of generating the TDO (See Datasheet)", 31 TDO (out) "Test data output. TDO is used for shifting test data into the target(s). TDO can be directly connected to the TDI terminal(s) of the target(s).", 32 TMS0 (out) "Test mode select outputs. These parallel outputs transmit TMS signals to the target(s), which direct them through their TAP controller states. TMS1-TMS0 can be directly connected to the TMS terminals of the target(s).", 33 TMS1 (out) "Test mode select outputs. These parallel outputs transmit TMS signals to the target(s), which direct them through their TAP controller states. TMS1-TMS0 can be directly connected to the TMS terminals of the target(s).", 36 TMS2/EVENT0 (io) "Test mode select outputs or event inputs/outputs. These I/Os can be configured for use as either TMS outputs or event inputs/outputs. As TMS outputs, they function similarly to TMS1-TMS0 above. As event I/Os, they can be (See Datasheet)", 37 TMS3/EVENT1 (io) "Test mode select outputs or event inputs/outputs. These I/Os can be configured for use as either TMS outputs or event inputs/outputs. As TMS outputs, they function similarly to TMS1-TMS0 above. As event I/Os, they can be (See Datasheet)", 38 TMS4/EVENT2 (io) "Test mode select outputs or event inputs/outputs. These I/Os can be configured for use as either TMS outputs or event inputs/outputs. As TMS outputs, they function similarly to TMS1-TMS0 above. As event I/Os, they can be (See Datasheet)", 39 TMS5/EVENT3 (io) "Test mode select outputs or event inputs/outputs. These I/Os can be configured for use as either TMS outputs or event inputs/outputs. As TMS outputs, they function similarly to TMS1-TMS0 above. As event I/Os, they can be (See Datasheet)", 40 ~{TRST} (in) "Test-reset input. T\R\S\T\ is used to initiate hardware and software reset operations of the TBC. Hardware reset begins when T\R\S\T\ is asserted (low). Software reset begins when T\R\S\T\ is released (high) and proceeds (See Datasheet)", 41 ~{WR} (io) "Write input. W\R\ is the strobe for writing data to a TBC data register. Signals present at the data and address buses are captured on the rising edge of W\R\.", 42 ~{RD} (io) "Read strobe. R\D\ is the active low output enable for the data bus. R\D\ is used as the strobe for reading data from the selected TBC register.", 43 ~{RDY} (out) "Ready. R\D\Y\ transmits a status signal to the host. When the TBC is ready to accept a read or write operation from the host, R\D\Y\ is asserted (low). R\D\Y\ is not asserted (high) when the TBC is in recovery from a read, (See Datasheet)", 44 ~{INT} (out) "Interrupt. I\N\T\ transmits an interrupt signal to the host. When the TBC requires service from the host, I\N\T\ is asserted (low). I\N\T\ will remain asserted (low) until the host has completed the required service."
part B pins: 1 GND (power) "Ground", 12 GND (power) "Ground", 13 VCC (power) "Supply voltage", 23 VCC (power) "Supply voltage", 34 GND (power) "Ground", 35 VCC (power) "Supply voltage"

## SN74ACT8990FNR
designator U?
Test-Bus Controllers IEEE Std 1149.1 (JTAG) TAP Masters With 16-Bit Generic Host Interfaces, FN0044A, LARGE T&R; Generic Part Number: SN74ACT8990; Manufacturer: Texas Instruments; PartNumber: SN74ACT8990FNR; VCC(Min)(V): 4.5; VCC(Max)(V): 5.5; Output Type: CMOS; Input Type: TTL; Rating: Catalog; Technology Family: ACT; DatasheetVersion: SCAS190E; PackageReference: FN0044A; Supplier 1: Mouser; Supplier Part Number 1: 595-SN74ACT8990FNR; Supplier 2: Digi-Key; Supplier Part Number 2: 296-4505-2-ND; Supplier 3: Digi-Key; Supplier Part Number 3: 296-4505-1-ND; Supplier 4: Digi-Key; Supplier Part Number 4: 296-4505-6-ND; Operating Temperature Range(C): -40 to 85; ComponentLink1Description: Manufacturer URL; ComponentLink1URL: http://www.ti.com/; ComponentLink2Description: Datasheet; ComponentLink2URL: http://www.ti.com/lit/ds/symlink/sn74act8990.pdf
footprint FN0044A_N (PLCC, 44-Leads, Body 16.66x16.66mm, Pitch 1.27mm, IPC Medium Density)
footprint FN0044A_M (PLCC, 44-Leads, Body 16.66x16.66mm, Pitch 1.27mm, IPC Low Density)
footprint FN0044A_L (PLCC, 44-Leads, Body 16.66x16.66mm, Pitch 1.27mm, IPC High Density)
part A pins: 2 ADRS0 (in) "Address inputs. ADRS4- ADRS0 form the 5-bit address bus that interfaces the TBC to its host. These inputs specify the TBC register to be read from or written to.", 3 ADRS1 (in) "Address inputs. ADRS4- ADRS0 form the 5-bit address bus that interfaces the TBC to its host. These inputs specify the TBC register to be read from or written to.", 4 ADRS2 (in) "Address inputs. ADRS4- ADRS0 form the 5-bit address bus that interfaces the TBC to its host. These inputs specify the TBC register to be read from or written to.", 5 ADRS3 (in) "Address inputs. ADRS4- ADRS0 form the 5-bit address bus that interfaces the TBC to its host. These inputs specify the TBC register to be read from or written to.", 6 ADRS4 (in) "Address inputs. ADRS4- ADRS0 form the 5-bit address bus that interfaces the TBC to its host. These inputs specify the TBC register to be read from or written to.", 7 DATA0 (io) "Data inputs and outputs. DATA15-DATA0 form the 16-bit bidirectional data bus that interfaces the TBC to its host. Data is read from or written to the TBC register using this data bus.", 8 DATA1 (io) "Data inputs and outputs. DATA15-DATA0 form the 16-bit bidirectional data bus that interfaces the TBC to its host. Data is read from or written to the TBC register using this data bus.", 9 DATA2 (io) "Data inputs and outputs. DATA15-DATA0 form the 16-bit bidirectional data bus that interfaces the TBC to its host. Data is read from or written to the TBC register using this data bus.", 10 DATA3 (io) "Data inputs and outputs. DATA15-DATA0 form the 16-bit bidirectional data bus that interfaces the TBC to its host. Data is read from or written to the TBC register using this data bus.", 11 DATA4 (io) "Data inputs and outputs. DATA15-DATA0 form the 16-bit bidirectional data bus that interfaces the TBC to its host. Data is read from or written to the TBC register using this data bus.", 14 DATA5 (io) "Data inputs and outputs. DATA15-DATA0 form the 16-bit bidirectional data bus that interfaces the TBC to its host. Data is read from or written to the TBC register using this data bus.", 15 DATA6 (io) "Data inputs and outputs. DATA15-DATA0 form the 16-bit bidirectional data bus that interfaces the TBC to its host. Data is read from or written to the TBC register using this data bus.", 16 DATA7 (io) "Data inputs and outputs. DATA15-DATA0 form the 16-bit bidirectional data bus that interfaces the TBC to its host. Data is read from or written to the TBC register using this data bus.", 17 DATA8 (io) "Data inputs and outputs. DATA15-DATA0 form the 16-bit bidirectional data bus that interfaces the TBC to its host. Data is read from or written to the TBC register using this data bus.", 18 DATA9 (io) "Data inputs and outputs. DATA15-DATA0 form the 16-bit bidirectional data bus that interfaces the TBC to its host. Data is read from or written to the TBC register using this data bus.", 19 DATA10 (io) "Data inputs and outputs. DATA15-DATA0 form the 16-bit bidirectional data bus that interfaces the TBC to its host. Data is read from or written to the TBC register using this data bus.", 20 DATA11 (io) "Data inputs and outputs. DATA15-DATA0 form the 16-bit bidirectional data bus that interfaces the TBC to its host. Data is read from or written to the TBC register using this data bus.", 21 DATA12 (io) "Data inputs and outputs. DATA15-DATA0 form the 16-bit bidirectional data bus that interfaces the TBC to its host. Data is read from or written to the TBC register using this data bus.", 22 DATA13 (io) "Data inputs and outputs. DATA15-DATA0 form the 16-bit bidirectional data bus that interfaces the TBC to its host. Data is read from or written to the TBC register using this data bus.", 24 DATA14 (io) "Data inputs and outputs. DATA15-DATA0 form the 16-bit bidirectional data bus that interfaces the TBC to its host. Data is read from or written to the TBC register using this data bus.", 25 DATA15 (io) "Data inputs and outputs. DATA15-DATA0 form the 16-bit bidirectional data bus that interfaces the TBC to its host. Data is read from or written to the TBC register using this data bus.", 26 ~{TOFF} (in) "Test-off input. T\O\F\F\ is the active low output disable for all outputs and I/Os of the target interface (TCKO, TDO, TMS, TMS/EVENT).", 27 TDI0 (in) "Test data inputs. The TDI1-TDI0 serial inputs are used for shifting test data from the target(s). The TDI inputs can be directly connected to the TDO pin(s) of the target(s).", 28 TDI1 (in) "Test data inputs. The TDI1-TDI0 serial inputs are used for shifting test data from the target(s). The TDI inputs can be directly connected to the TDO pin(s) of the target(s).", 29 TCKI (in) "Test clock input. TCKI is the clock input for the TBC. Most operations of the TBC are synchronous to TCKI. When enabled, all target interface outputs change on the falling edge of TCKI. Sampling of target interface inputs (See Datasheet)", 30 TCKO (out) "Test clock output. TCKO distributes TCK to the target(s). The TCKO is configured to be disabled, constant zero, constant one, or to follow TCKI. When TCKO follows TCKI, it is delayed to match the delay of generating the TDO (See Datasheet)", 31 TDO (out) "Test data output. TDO is used for shifting test data into the target(s). TDO can be directly connected to the TDI terminal(s) of the target(s).", 32 TMS0 (out) "Test mode select outputs. These parallel outputs transmit TMS signals to the target(s), which direct them through their TAP controller states. TMS1-TMS0 can be directly connected to the TMS terminals of the target(s).", 33 TMS1 (out) "Test mode select outputs. These parallel outputs transmit TMS signals to the target(s), which direct them through their TAP controller states. TMS1-TMS0 can be directly connected to the TMS terminals of the target(s).", 36 TMS2/EVENT0 (io) "Test mode select outputs or event inputs/outputs. These I/Os can be configured for use as either TMS outputs or event inputs/outputs. As TMS outputs, they function similarly to TMS1-TMS0 above. As event I/Os, they can be (See Datasheet)", 37 TMS3/EVENT1 (io) "Test mode select outputs or event inputs/outputs. These I/Os can be configured for use as either TMS outputs or event inputs/outputs. As TMS outputs, they function similarly to TMS1-TMS0 above. As event I/Os, they can be (See Datasheet)", 38 TMS4/EVENT2 (io) "Test mode select outputs or event inputs/outputs. These I/Os can be configured for use as either TMS outputs or event inputs/outputs. As TMS outputs, they function similarly to TMS1-TMS0 above. As event I/Os, they can be (See Datasheet)", 39 TMS5/EVENT3 (io) "Test mode select outputs or event inputs/outputs. These I/Os can be configured for use as either TMS outputs or event inputs/outputs. As TMS outputs, they function similarly to TMS1-TMS0 above. As event I/Os, they can be (See Datasheet)", 40 ~{TRST} (in) "Test-reset input. T\R\S\T\ is used to initiate hardware and software reset operations of the TBC. Hardware reset begins when T\R\S\T\ is asserted (low). Software reset begins when T\R\S\T\ is released (high) and proceeds (See Datasheet)", 41 ~{WR} (io) "Write input. W\R\ is the strobe for writing data to a TBC data register. Signals present at the data and address buses are captured on the rising edge of W\R\.", 42 ~{RD} (io) "Read strobe. R\D\ is the active low output enable for the data bus. R\D\ is used as the strobe for reading data from the selected TBC register.", 43 ~{RDY} (out) "Ready. R\D\Y\ transmits a status signal to the host. When the TBC is ready to accept a read or write operation from the host, R\D\Y\ is asserted (low). R\D\Y\ is not asserted (high) when the TBC is in recovery from a read, (See Datasheet)", 44 ~{INT} (out) "Interrupt. I\N\T\ transmits an interrupt signal to the host. When the TBC requires service from the host, I\N\T\ is asserted (low). I\N\T\ will remain asserted (low) until the host has completed the required service."
part B pins: 1 GND (power) "Ground", 12 GND (power) "Ground", 13 VCC (power) "Supply voltage", 23 VCC (power) "Supply voltage", 34 GND (power) "Ground", 35 VCC (power) "Supply voltage"